# Altium footprint library USB_TypeC_Footprint.PcbLib: 2 footprints
Each footprint in its own frame and in the unit in brackets; x right, y up, seen from the top. Pads: shape width x height; smd on the part's side, far side on the other; paste and mask are expansions set on the pad; w line width, h text height; cw(c..) or ccw(c..) is an arc to the next point about the centre after c.
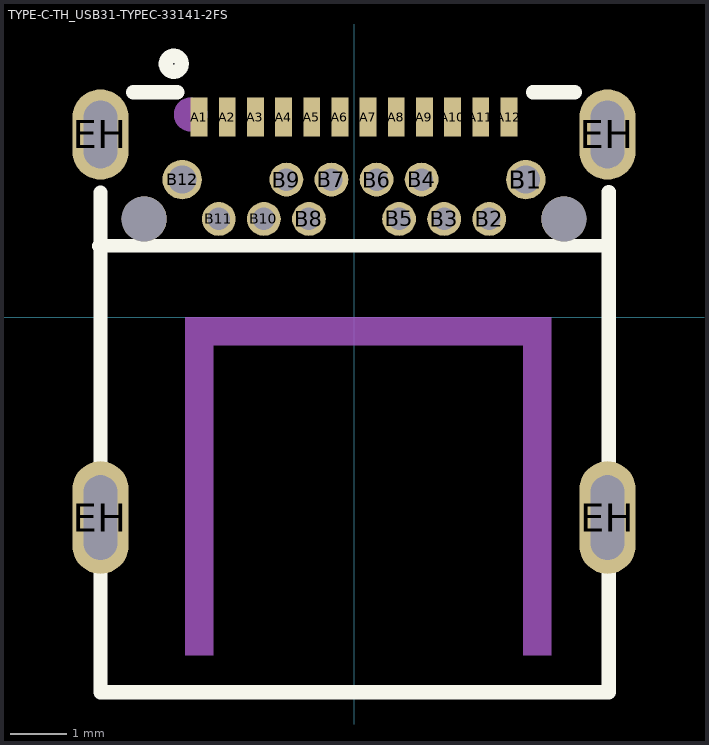
[diagram p0: the footprints below, top view; thin cyan lines are the x and y axes]

## PCBComponent_1 [mm]

## TYPE-C-TH_USB31-TYPEC-33141-2FS [mm]
pads (30):
  rect 0.3x0.7 smd: A1(-2.75,3.555) A2(-2.25,3.555) A3(-1.75,3.555) A4(-1.25,3.555) A5(-0.75,3.555) A6(-0.25,3.555) A7(0.25,3.555) A8(0.75,3.555) A9(1.25,3.555) A10(1.75,3.555) A11(2.25,3.555) A12(2.75,3.555)
  round 0.7 hole 0.5: B1(3.05,2.445) B12(-3.05,2.445)
  round 0.6 hole 0.4: B2(2.4,1.745) B3(1.6,1.745) B4(1.2,2.445) B5(0.8,1.745) B6(0.4,2.445) B7(-0.4,2.445) B8(-0.8,1.745) B9(-1.2,2.445) B10(-1.6,1.745) B11(-2.4,1.745)
  oval 1x2 hole 0.6 slot 1.5 at 90 deg: EH(-4.5,-3.555) EH(4.5,-3.555)
  oval 1x1.6 hole 0.6 slot 1.2 at 90 deg: EH(-4.5,3.245) EH(4.5,3.245)
  round 0.8 hole 0.8 unplated: ""(-3.725,1.745) ""(3.725,1.745)
Top Overlay:
  circle w0.254: c-3.2,4.5 r0.141
  lines w0.254: -4.521,1.264 4.51,1.275 ; -4.5,2.214 -4.5,-6.005 -4.5,-6.655 4.5,-6.655 ; -3.917,3.995 -3.138,3.995 ; 3.178,3.995 3.917,3.995 ; 4.52,-6.655 4.52,-5.826 4.52,2.224
Top Paste:
  drawing of 28 lines, arcs and shapes, not listed
Mechanical 15:
  circle w0.3: c-2.9,3.6 r0.15
  region: -3,-6 -3,0 -2.5,0 -2.5,-6
  region: 3.5,-6 3.5,0 3,0 3,-6
  region: -2.5,0 3,0 3,-0.5 -2.5,-0.5